# Altium footprint library CAP 1812_4532 1.5MM.PCBLIB: 1 footprints
Each footprint in its own frame and in the unit in brackets; x right, y up, seen from the top. Pads: shape width x height; smd on the part's side, far side on the other; paste and mask are expansions set on the pad; w line width, h text height; cw(c..) or ccw(c..) is an arc to the next point about the centre after c.
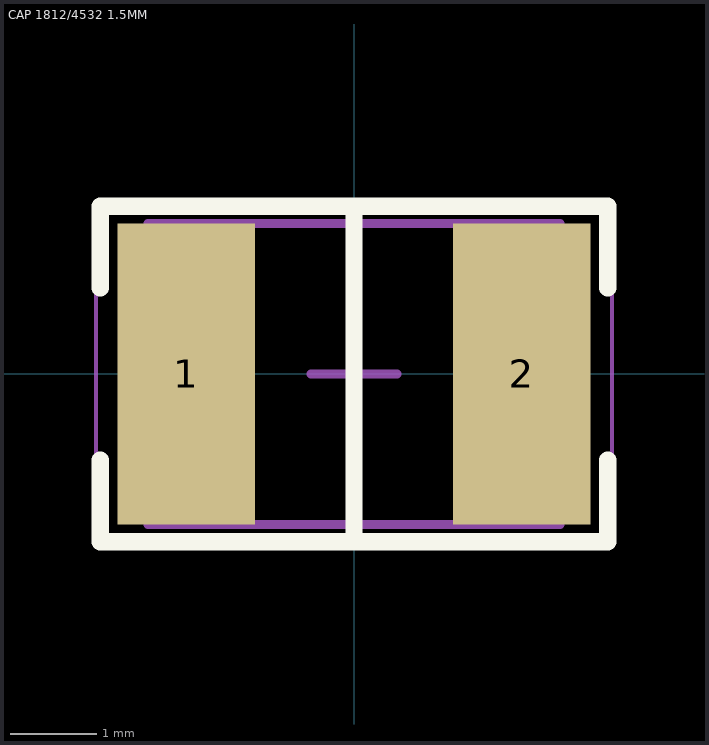
[diagram p0: the footprint, top view; thin cyan lines are the x and y axes]

## CAP 1812/4532 1.5MM [mm] "Chip Capacitor, 2-Leads, Body 4.50x3.20mm, IPC Medium Density"
height 1.5
pads (2):
  rect 1.6x3.5 smd: 1(-1.95,0) 2(1.95,0)
Top Overlay:
  lines w0.2: -2.95,-1 -2.95,-1.95 2.95,-1.95 2.95,-1 ; -2.95,1 -2.95,1.95 2.95,1.95 2.95,1 ; 0,-1.95 0,1.95
Mechanical 13:
  lines w0.1: -2.4,-1.75 -2.4,1.75 2.4,1.75 2.4,-1.75 -2.4,-1.75
Mechanical 15:
  lines w0.05: -3,-2 -3,2 3,2 3,-2 -3,-2
  lines w0.1: -0.5,0 0.5,0 ; 0,-0.5 0,0.5
3D body "CAP 1812-1.5mm.STEP": height 1.5, standoff 0, extent -2.25,-1.6 2.25,1.6